# Altium integrated library WE-CNSW_HF_rev16a.intlib: 5 symbols
Pins are listed as number, name and electrical type; pins without a type are passive.

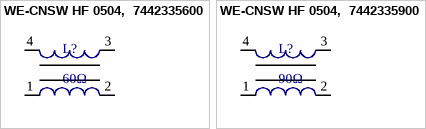
[diagram p0: symbols WE-CNSW HF 0504,  7442335600 to WE-CNSW HF 0504,  7442335900]

## WE-CNSW HF 0504,  7442335600
designator L?, comment 60Ω
WE-CNSW HF SMD Common Mode Line Filter (High Frequency), Impedance =60Ω; partNo: 7442335600; Manufacturer: Wurth Elektronik; Impedance: 60Ω; ComponentLink1Description: Manufacturer; ComponentLink1URL: http://www.we-online.de; Created by: BJ.Chen; Created Date: Jan 2016; ComponentLink2Description: Datasheet; ComponentLink2URL: http://katalog.we-online.de/pbs/datasheet/7442335600.pdf
footprint WE-CNSW HF, 0504 (WE-CNSW HF SMD Common Mode Line Filter, 0504)
pins: 1, 2, 3, 4

## WE-CNSW HF 0504,  7442335900
designator L?, comment 90Ω
WE-CNSW HF SMD Common Mode Line Filter (High Frequency), Impedance =90Ω; partNo: 7442335900; Manufacturer: Wurth Elektronik; Impedance: 90Ω; ComponentLink1Description: Manufacturer; ComponentLink1URL: http://www.we-online.de; Created by: BJ.Chen; Created Date: Jan 2016; ComponentLink2Description: Datasheet; ComponentLink2URL: http://katalog.we-online.de/pbs/datasheet/7442335900.pdf
footprint WE-CNSW HF, 0504 (WE-CNSW HF SMD Common Mode Line Filter, 0504)
pins: 1, 2, 3, 4


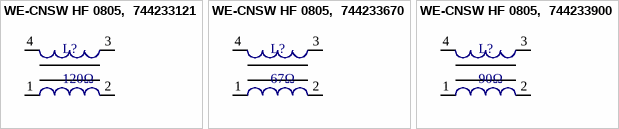
[diagram p1: symbols WE-CNSW HF 0805,  744233121 to WE-CNSW HF 0805,  744233900]

## WE-CNSW HF 0805,  744233121
designator L?, comment 120Ω
WE-CNSW HF SMD Common Mode Line Filter (High Frequency), Impedance =120Ω; partNo: 744233121; Manufacturer: Wurth Elektronik; Impedance: 120Ω; ComponentLink1Description: Manufacturer; ComponentLink1URL: http://www.we-online.de; Created by: BJ.Chen; Created Date: Jan 2016; ComponentLink2Description: Datasheet; ComponentLink2URL: http://katalog.we-online.de/pbs/datasheet/744233121.pdf
footprint WE-CNSW HF, 0805 (WE-CNSW HF SMD Common Mode Line Filter, 0805)
pins: 1, 2, 3, 4

## WE-CNSW HF 0805,  744233670
designator L?, comment 67Ω
WE-CNSW HF SMD Common Mode Line Filter (High Frequency), Impedance =67Ω; partNo: 744233670; Manufacturer: Wurth Elektronik; Impedance: 67Ω; ComponentLink1Description: Manufacturer; ComponentLink1URL: http://www.we-online.de; Created by: BJ.Chen; Created Date: Jan 2016; ComponentLink2Description: Datasheet; ComponentLink2URL: http://katalog.we-online.de/pbs/datasheet/744233670.pdf
footprint WE-CNSW HF, 0805 (WE-CNSW HF SMD Common Mode Line Filter, 0805)
pins: 1, 2, 3, 4

## WE-CNSW HF 0805,  744233900
designator L?, comment 90Ω
WE-CNSW HF SMD Common Mode Line Filter (High Frequency), Impedance =90Ω; partNo: 744233900; Manufacturer: Wurth Elektronik; Impedance: 90Ω; ComponentLink1Description: Manufacturer; ComponentLink1URL: http://www.we-online.de; Created by: BJ.Chen; Created Date: Jan 2016; ComponentLink2Description: Datasheet; ComponentLink2URL: http://katalog.we-online.de/pbs/datasheet/744233900.pdf
footprint WE-CNSW HF, 0805 (WE-CNSW HF SMD Common Mode Line Filter, 0805)
pins: 1, 2, 3, 4